# Altium footprint library ANT.PCBLIB: 24 footprints (part 1 of 2)
Each footprint in its own frame and in the unit in brackets; x right, y up, seen from the top. Pads: shape width x height; smd on the part's side, far side on the other; paste and mask are expansions set on the pad; w line width, h text height; cw(c..) or ccw(c..) is an arc to the next point about the centre after c.
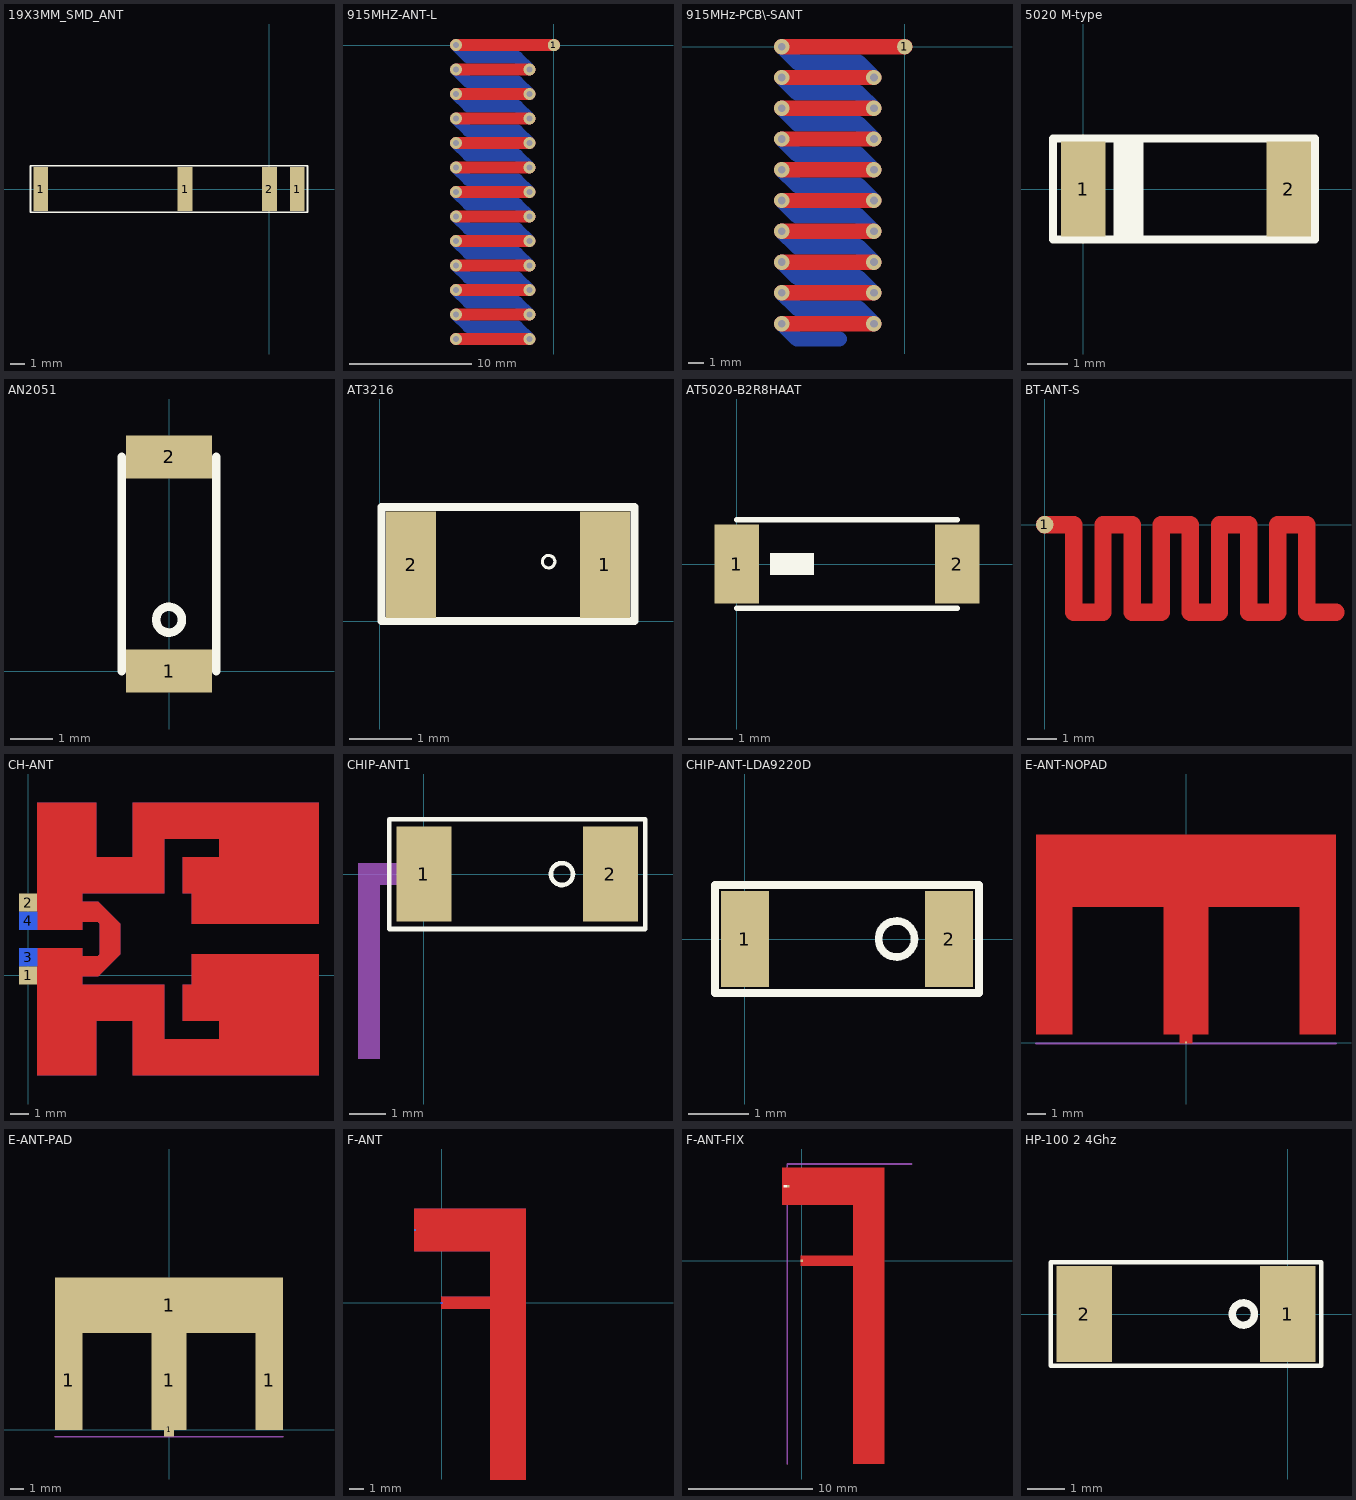
[diagram p0: the footprints below, top view; thin cyan lines are the x and y axes]

## 19X3MM_SMD_ANT [mm]
pads (4):
  rect 1x3 smd: 1(-15.7,0) 1(-5.8,0) 1(1.9,0) 2(0,0)
TopOverlay:
  lines w0.127: -16.4,-1.6 -16.4,1.6 2.6,1.6 2.6,-1.6 -16.4,-1.6

## 915MHZ-ANT-L [mm]
pads (1):
  round 1 smd: 1(0,0)
via -8,-20 diameter 1 hole 0.5
via -8,-22 diameter 1 hole 0.5
via -2,-22 diameter 1 hole 0.5
via -8,-18 diameter 1 hole 0.5
via -8,-20 diameter 1 hole 0.5
via -2,-20 diameter 1 hole 0.5
via -8,0 diameter 1 hole 0.5
via -8,-2 diameter 1 hole 0.5
via -2,-2 diameter 1 hole 0.5
via -8,-4 diameter 1 hole 0.5
via -2,-4 diameter 1 hole 0.5
via -8,-6 diameter 1 hole 0.5
via -2,-6 diameter 1 hole 0.5
via -8,-8 diameter 1 hole 0.5
via -2,-8 diameter 1 hole 0.5
via -8,-10 diameter 1 hole 0.5
via -2,-10 diameter 1 hole 0.5
via -8,-12 diameter 1 hole 0.5
via -2,-12 diameter 1 hole 0.5
via -8,-14 diameter 1 hole 0.5
via -2,-14 diameter 1 hole 0.5
via -8,-16 diameter 1 hole 0.5
via -2,-16 diameter 1 hole 0.5
via -8,-18 diameter 1 hole 0.5
via -2,-18 diameter 1 hole 0.5
via -2,-24 diameter 1 hole 0.5
via -8,-24 diameter 1 hole 0.5
via -8,-22 diameter 1 hole 0.5
TopLayer:
  lines w1: -8,-24 -2,-24 ; -8,-22 -2,-22 ; -8,-20 -2,-20 ; -8,-18 -2,-18 ; -8,-16 -2,-16 ; -8,-14 -2,-14 ; -8,-12 -2,-12 ; -8,-10 -2,-10 ; -8,-8 -2,-8 ; -8,-6 -2,-6 ; -8,-4 -2,-4 ; -8,-2 -2,-2 ; -8,0 0,0
BottomLayer:
  lines w1: -8,-22 -7,-23 -3,-23 -2,-24 ; -8,-20 -7,-21 -3,-21 -2,-22 ; -8,-18 -7,-19 -3,-19 -2,-20 ; -8,-16 -7,-17 -3,-17 -2,-18 ; -8,-14 -7,-15 -3,-15 -2,-16 ; -8,-12 -7,-13 -3,-13 -2,-14 ; -8,-10 -7,-11 -3,-11 -2,-12 ; -8,-8 -7,-9 -3,-9 -2,-10 ; -8,-6 -7,-7 -3,-7 -2,-8 ; -8,-4 -7,-5 -3,-5 -2,-6 ; -8,-2 -7,-3 -3,-3 -2,-4 ; -8,0 -7,-1 -3,-1 -2,-2

## 915MHz-PCB\-SANT [mm]
pads (1):
  round 1 smd: 1(0,0)
via -8,0 diameter 1 hole 0.5
via -8,-2 diameter 1 hole 0.5
via -2,-2 diameter 1 hole 0.5
via -8,-4 diameter 1 hole 0.5
via -2,-4 diameter 1 hole 0.5
via -8,-6 diameter 1 hole 0.5
via -2,-6 diameter 1 hole 0.5
via -8,-8 diameter 1 hole 0.5
via -2,-8 diameter 1 hole 0.5
via -8,-10 diameter 1 hole 0.5
via -2,-10 diameter 1 hole 0.5
via -8,-12 diameter 1 hole 0.5
via -2,-12 diameter 1 hole 0.5
via -8,-14 diameter 1 hole 0.5
via -2,-14 diameter 1 hole 0.5
via -8,-16 diameter 1 hole 0.5
via -2,-16 diameter 1 hole 0.5
via -8,-18 diameter 1 hole 0.5
via -2,-18 diameter 1 hole 0.5
TopLayer:
  lines w1: -8,-18 -2,-18 ; -8,-16 -2,-16 ; -8,-14 -2,-14 ; -8,-12 -2,-12 ; -8,-10 -2,-10 ; -8,-8 -2,-8 ; -8,-6 -2,-6 ; -8,-4 -2,-4 ; -8,-2 -2,-2 ; -8,0 0,0
BottomLayer:
  lines w1: -8,-18 -7,-19 -4.25,-19 ; -8,-16 -7,-17 -3,-17 -2,-18 ; -8,-14 -7,-15 -3,-15 -2,-16 ; -8,-12 -7,-13 -3,-13 -2,-14 ; -8,-10 -7,-11 -3,-11 -2,-12 ; -8,-8 -7,-9 -3,-9 -2,-10 ; -8,-6 -7,-7 -3,-7 -2,-8 ; -8,-4 -7,-5 -3,-5 -2,-6 ; -8,-2 -7,-3 -3,-3 -2,-4 ; -8,0 -7,-1 -3,-1 -2,-2

## 5020 M-type [mm]
pads (2):
  rect 1.1x2.35 smd: 1(0,0) 2(5.1,0)
TopOverlay:
  rectangle: 0.75,-1.25 1.5,1.25
  lines w0.2: -0.75,-1.25 -0.75,1.25 5.75,1.25 5.75,-1.25 -0.75,-1.25

## AN2051 [mm]
pads (2):
  rect 2x1 smd: 1(0,0) 2(0,5)
TopOverlay:
  circle w0.2: c0,1.2 r0.3
  lines w0.2: -1.1,0 -1.1,5 ; 1.1,0 1.1,5

## AT3216 [mm] "AT3216"
pads (2):
  rect 0.8x1.7 smd: 1(3.6,0.9) 2(0.5,0.9)
TopOverlay:
  circle w0.05: c2.7,0.95 r0.1
  lines w0.127: 0.025,0 4.075,0 4.075,1.825 0.025,1.825 0.025,0

## AT5020-B2R8HAAT [mm]
pads (2):
  rect 1x1.8 smd: 1(0,0) 2(5,0)
TopOverlay:
  rectangle: 0.75,-0.25 1.75,0.25
  lines w0.127: 0,-1 5,-1 ; 0,1 5,1

## BT-ANT-S [mm]
pads (1):
  round 0.6 smd: 1(0,0)
TopLayer:
  lines w0.6: 0,0 1,0 1,-3 2,-3 2,0 3,0 3,-3 4,-3 4,0 5,0 5,-3 6,-3 6,0 7,0 7,-3 8,-3 8,0 9,0 9,-3 10,-3
TopSolder:
  lines w0.6: 0,0 1,0 1,-3 2,-3 2,0 3,0 3,-3 4,-3 4,0 5,0 5,-3 6,-3 6,0 7,0 7,-3 8,-3 8,0 9,0 9,-3 10,-3

## CH-ANT [mm]
pads (4):
  rect 1x1 smd: 1(0,0) 2(0,4)
  rect 1x1 smd far side: 3(0,1) 4(0,3)
TopLayer:
  rectangle: 8.5,4.5 9.05,6.5
  rectangle: 5.75,4.5 7.5,7.5
  rectangle: 0.5,4.5 5.75,6.5
  rectangle: 0.5,6.5 3.75,9.5
  rectangle: 0.5,-5.5 3.75,-2.5
  rectangle: 0.5,-2.5 3,1.5
  rectangle: 3,-2.5 7.5,-0.5
  rectangle: 5.75,-5.5 7.5,-2.5
  rectangle: 7.5,-5.5 16,-3.5
  rectangle: 8.5,-2.5 9,-0.5
  rectangle: 10.5,-3.5 16,-2.5
  rectangle: 9,2.833 16,6.5
  rectangle: 5.75,7.5 16,9.5
  rectangle: 10.5,6.5 16,7.5
  rectangle: 3,-0.075 3.85,1.075
  rectangle: 3,2.925 3.85,4.075
  rectangle: 0.5,2.5 3,4.5
  region: 4.5,2.275 5.075,2.85 3.85,4.075 3.275,3.5
  region: 3.85,-0.075 5.075,1.15 4.5,1.725 3.275,0.5
  rectangle: 3.925,1.15 5.075,2.85
  rectangle: 9,-2.5 16,1.17
BottomLayer:
  rectangle: 5.75,-5.499 16,-3.5
  rectangle: 10.5,-3.5 16,1.17
  rectangle: 8.5,-2.5 9,-0.5
  rectangle: 10.51,2.83 16,9.5
  rectangle: 9,-2.5 10.5,1.17
  rectangle: 9,2.83 10.51,6.5
  rectangle: 8.5,4.5 9,6.5
  rectangle: 5.75,7.5 10.51,9.5
  rectangle: 5.75,4.5 7.5,7.5
  rectangle: 5.75,-3.5 7.5,-0.5
  rectangle: 3.75,-2.5 5.75,-0.5
  rectangle: 0.5,-5.5 3.75,-0.5
  rectangle: 3.75,4.5 5.75,6.5
  rectangle: 0.5,4.5 3.75,9.5
  rectangle: 0.5,2.5 3,4.5
  rectangle: 0.5,-0.5 3,1.5
  rectangle: 3,2.925 3.85,4.075
  rectangle: 3,-0.075 3.85,1.075
  region: 4.5,2.275 5.075,2.85 3.85,4.075 3.275,3.5
  region: 3.85,-0.075 5.075,1.15 4.5,1.725 3.275,0.5
  rectangle: 3.925,1.15 5.075,2.85

## CHIP-ANT1 [mm]
pads (2):
  rect 1.5x2.6 smd: 1(0,0) 2(5.1,0)
TopOverlay:
  circle w0.127: c3.775,0 r0.3
  lines w0.127: -0.95,-1.5 6.05,-1.5 6.05,1.5 -0.95,1.5 -0.95,-1.5
Mechanical1:
  rectangle: -1.8,-5.05 -1.2,0.3
  lines w0.6: -1.5,0 -0.45,0

## CHIP-ANT-LDA9220D [mm]
pads (2):
  rect 0.8x1.6 smd: 1(0,0) 2(3.4,0)
TopOverlay:
  circle w0.127: c2.525,0 r0.3
  lines w0.127: -0.5,-0.9 3.9,-0.9 3.9,0.9 -0.5,0.9 -0.5,-0.9

## E-ANT-NOPAD [mm]
pads (1):
  rect 0.1x0.1 smd: 1(0,0)
TopLayer:
  rectangle: -0.35,-0.05 0.35,0.6
  rectangle: 6.25,0.45 8.25,8.025
  rectangle: -1.25,0.45 1.25,8.075
  rectangle: -8.25,0.45 -6.25,7.925
  rectangle: -8.25,7.45 8.25,11.45
Mechanical1:
  lines w0.127: -8.25,-0.05 8.25,-0.05

## E-ANT-PAD [mm]
pads (5):
  rect 2x7.2 smd: 1(-7.25,3.6) 1(7.25,3.6)
  rect 0.7x1 smd: 1(0,0)
  rect 2.5x7.2 smd: 1(0,3.6)
  rect 16.5x4 smd: 1(0,9)
Mechanical1:
  lines w0.127: -8.25,-0.5 8.25,-0.5

## F-ANT [mm]
pads (4):
  rect 0.1x0.1 smd far side: 0(0,0) 2(-1.85,5.05)
  rect 0.01x0.01 smd: 1(0,0) 2(-1.85,5.05)
TopLayer:
  rectangle: -0.05,-0.425 3.4,0.425
  region: 5.85,-17.25 5.85,3.55 3.35,3.55 3.35,-17.25
  rectangle: -1.9,3.55 5.85,6.55
  rectangle: 3.35,3.15 5.85,3.9
BottomLayer:
  rectangle: -0.05,-0.425 3.4,0.425
  rectangle: -1.9,3.55 5.85,6.55
  region: 5.85,-17.25 5.85,3.55 3.35,3.55 3.35,-17.25
  rectangle: 3.35,3.15 5.85,3.9
TopOverlay:
  rectangle: -1.9,5 -1.8,5.1
  rectangle: -0.05,-0.05 0.05,0.05

## F-ANT-FIX [mm]
pads (2):
  rect 0.2x0.2 smd: 1(0,0) 2(-1.05,5.975)
TopLayer:
  rectangle: 4.15,-16.325 6.65,7.475
  rectangle: -1.55,4.475 6.65,7.475
  rectangle: -0.1,-0.425 4.35,0.425
TopOverlay:
  rectangle: -1.45,5.875 -1.15,6.075
Mechanical1:
  lines w0.127: -1.15,-16.325 -1.15,7.75 8.85,7.75

## HP-100 2 4Ghz [mm]
pads (2):
  rect 1.5x2.6 smd: 1(0,0) 2(-5.5,0)
TopOverlay:
  circle w0.2: c-1.2,0 r0.3
  lines w0.127: -6.4,-1.4 0.9,-1.4 0.9,1.4 -6.4,1.4 -6.4,-1.4